# Altium schematic symbol library LEDBoard.SchLib: 9 symbols
Pins are listed as number, name and electrical type; pins without a type are passive.

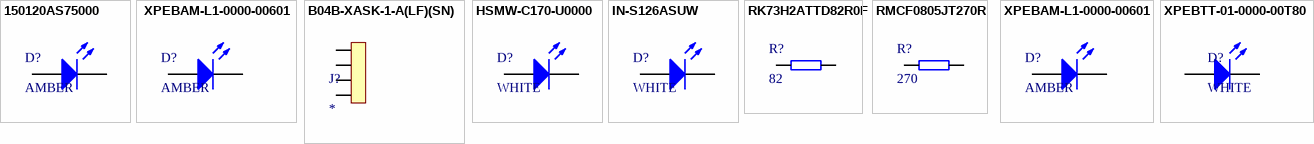
[diagram p0: symbols 150120AS75000 to XPEBTT-01-0000-00T80]

## 150120AS75000
designator D?, comment AMBER
WURTH ELEKTRONIK   150120AS75000   LED, 1206, AMBER, 140MCD, 605NM; Manufacturer 1: Wurth Electronics; Color: Orange; Forward Current: 30mA; Forward Voltage: 2V; Viewing Angle: 140°; Lens Style: Clear,Rectangular; Test Current: 20mA; Supplier 1: Digi-Key; Manufacturer Part Number 1: 150120AS75000; Stock 1: 2478; Pricing 1: 1=0.21000, 50=0.19800, 100=0.17100, 500=0.14800 (USD); RoHS: Yes; Mount: Surface Mount; Case/Package: 1206; Case Code (Metric): 3216; Case Code (Imperial): 1206; Min Operating Temperature: -40°C; Max Operating Temperature: 85°C; Luminous Intensity: 140mcd; Package Quantity: 3000; Packaging: Tape and Reel; Wavelength: 605nm; Dominant Wavelength: 605nm; Length: 3.2mm; Height: 0.68mm; Width: 1.6mm; REACH SVHC: Unknown; ComponentLink1URL: https://datasheet.ciiva.com/29561/150120as75000-29561877.pdf?src-supplier=Digi-Key; ComponentLink1Description: https://datasheet.ciiva.com/29561/150120as75000-29561877.pdf?src-supplier=Digi-Key; ComponentLink2URL: https://datasheet.ciiva.com/29279/759439-da-01-en-chipled-1206-w-kl-amb-150120as75000-29279037.pdf?src-supplier=Conrad; ComponentLink2Description: https://datasheet.ciiva.com/29279/759439-da-01-en-chipled-1206-w-kl-amb-150120as75000-29279037.pdf?src-supplier=Conrad; ComponentLink3URL: https://datasheet.ciiva.com/29561/150120as75000-29561878.pdf?src-supplier=Digi-Key; ComponentLink3Description: https://datasheet.ciiva.com/29561/150120as75000-29561878.pdf?src-supplier=Digi-Key; ComponentLink4URL: https://datasheet.ciiva.com/29561/150120as75000-29561879.pdf?src-supplier=Digi-Key; ComponentLink4Description: https://datasheet.ciiva.com/29561/150120as75000-29561879.pdf?src-supplier=Digi-Key; Supplier Part Number 1: 732-4988-1-ND
footprint 150120AS75000
pins: 1 K, 2 A

##  XPEBAM-L1-0000-00601
designator D?, comment AMBER
LED Lighting Color XLamp® XP-E2 Amber 590nm (585nm ~ 595nm) 1414 (3535 Metric); Manufacturer 1: Cree; Manufacturer Part Number 1: XPEBAM-L1-0000-00601; Color: Orange; Lens Color: Clear; Reverse Voltage: 5V; Test Current: 350mA; Max Current Rating: 1A; Thermal Resistance of Package: 7°C/W; Test Temperature: 25°C; Luminous Flux: 62lm; Lens Style: Dome; Number of Elements: 1; Viewing Angle: 130°; Forward Voltage: 2.2V; Power Rating: 3W; ComponentLink1Description: Digikey; ComponentLink1URL: https://www.digikey.ca/en/products/detail/cree-inc/XPEBAM-L1-0000-00601/4177240; Supplier 1: Digi-Key; Stock 1: 559; Pricing 1: 1=1.15000, 10=1.09400, 50=1.06280, 100=0.97870, 200=0.89005, 500=0.83362 (USD); RoHS: Yes; Mount: Surface Mount; Case/Package: SMD/SMT; Number of Pins: 2; Max Operating Temperature: 150°C; Reverse Voltage (DC): 5V; Dominant Wavelength: 595nm; Package Quantity: 1000; Packaging: Tape and Reel; Wavelength: 595nm; Illumination Color: Orange; Forward Current: 1A; Length: 3.45mm; Height: 2.26mm; Width: 3.45mm; Depth: 3.45mm; Radiation Hardening: No; Lead Free: Lead Free; ComponentLink2URL: https://datasheet.ciiva.com/26857/getdatasheetpartid-734978-26857704.pdf?src-supplier=Verical; ComponentLink2Description: https://datasheet.ciiva.com/26857/getdatasheetpartid-734978-26857704.pdf?src-supplier=Verical; ComponentLink3URL: https://datasheet.ciiva.com/46636/xlampxpe2-46636200.pdf?src-supplier=Digi-Key; ComponentLink3Description: https://datasheet.ciiva.com/46636/xlampxpe2-46636200.pdf?src-supplier=Digi-Key; ComponentLink4URL: https://datasheet.ciiva.com/24122/xlampxpe2-24122053.pdf?src-supplier=Mouser; ComponentLink4Description: https://datasheet.ciiva.com/24122/xlampxpe2-24122053.pdf?src-supplier=Mouser; Supplier Part Number 1: XPEBAM-L1-0000-00601CT-ND
footprint XPCAMB-L1-0000-00501
pins: 1 A, 2 K

## B04B-XASK-1-A(LF)(SN)
designator J?
XA Series 4 Position 2.5mm Pitch Top Entry with Boss ThroughHole Shrouded Header; Manufacturer 1: JST; Manufacturer Part Number 1: B04B-XASK-1-A(LF)(SN); Number of Positions: 4; Supplier 1: Arrow; Stock 1: 380; Pricing 1: 1=0.25960, 10=0.25030, 100=0.16200, 500=0.13850, 1000=0.10710, 5000=0.10160, 10000=0.10130 (USD); RoHS: Yes; Mount: Through Hole; Termination: Crimp; Pitch: 2.5mm; Lead Free: Lead Free; ComponentLink1URL: https://datasheet.ciiva.com/16500/jstb04b-xask-1-a-lf-sn-16500956.pdf?src-supplier=Future+Electronics; ComponentLink1Description: https://datasheet.ciiva.com/16500/jstb04b-xask-1-a-lf-sn-16500956.pdf?src-supplier=Future+Electronics; Supplier Part Number 1: B04B-XASK-1-A(LF)(SN)
footprint B04B-XASK-1-A
pins: 1, 2, 3, 4

## HSMW-C170-U0000
designator D?, comment WHITE
Led, White, 670MCD, 0805; Manufacturer 1: Broadcom Avago; Manufacturer Part Number 1: HSMW-C170-U0000; Lens Style: Flat; Forward Voltage: 3.4V; Test Current: 20mA; Viewing Angle: 170°; Lens Size: 1.25mm; Supplier 1: Digi-Key; Stock 1: 12232; Pricing 1: 1=1.05000, 10=0.81600, 100=0.52470, 500=0.44308, 1000=0.34980 (USD); RoHS: No; Mount: Surface Mount; Case/Package: 0805; Color: White; Case Code (Imperial): 0805; Case Code (Metric): 2012; Packaging: Cut Tape; Luminous Intensity: 670mcd; Length: 2mm; Height: 0.9mm; Width: 1.25mm; ComponentLink1URL: https://docs.broadcom.com/docs/HSMW-C170-U0000-DS100?src-supplier=Digi-Key; ComponentLink1Description: https://docs.broadcom.com/docs/HSMW-C170-U0000-DS100?src-supplier=Digi-Key; Supplier Part Number 1: 516-3993-1-ND
footprint HSMW-C170-U0000
pins: 1 K, 2 A

## IN-S126ASUW
designator D?, comment WHITE
Led White Clear 1206 SMD R/a; Manufacturer 1: Inolux; Manufacturer Part Number 1: IN-S126ASUW; Lens Style: Domed; Luminous Intensity: 720mcd; Forward Voltage: 3V; Test Current: 20mA; Viewing Angle: 120°; Lens Size: 1mm; Supplier 1: Digi-Key; Stock 1: 618; Pricing 1: 1=0.49000, 10=0.34600, 100=0.20180, 500=0.13840, 1000=0.11534 (USD); RoHS: No; Mount: Surface Mount; Case/Package: SMD/SMT; Color: White; Lens Color: Clear; Packaging: Tape and Reel; Lens Transparency: Clear; Length: 3.2mm; Height: 1mm; Width: 1.5mm; ComponentLink1URL: http://www.inolux-corp.com/datasheet/SMDLED/Mono%20Color%20Side%20View/IN-S126AS%20Series_V1.0.pdf?src-supplier=Digi-Key; ComponentLink1Description: http://www.inolux-corp.com/datasheet/SMDLED/Mono%20Color%20Side%20View/IN-S126AS%20Series_V1.0.pdf?src-supplier=Digi-Key; Supplier Part Number 1: 1830-1047-1-ND
footprint IN-S126ASUW
pins: 1 K, 2 A

## RK73H2ATTD82R0F
designator R?, comment 82
82 Ohms ±1% 0.25W, 1/4W Chip Resistor 0805 (2012 Metric) Automotive AEC-Q200, Moisture Resistant Thick Film; Manufacturer 1: KOA Speer; Manufacturer Part Number 1: RK73H2ATTD82R0F; Temperature Coefficient: 100ppm/°C; Resistance: 82R; Power Rating: 125mW; Voltage Rating: 150V; ComponentLink1Description: Digikey; ComponentLink1URL: https://www.digikey.com/product-detail/en/koa-speer-electronics-inc/RK73H2ATTD82R0F/2019-RK73H2ATTD82R0FCT-ND/10235651; ComponentLink2Description: Datasheet; ComponentLink2URL: http://www.koaspeer.com/pdfs/RK73H.pdf; Supplier 1: Digi-Key; Stock 1: 62113; Pricing 1: 1=0.10000, 10=0.03300, 100=0.01360, 1000=0.00612, 2500=0.00531 (USD); RoHS: Yes; Case/Package: 0805; Number of Pins: 2; Case Code (Imperial): 0805; Case Code (Metric): 2012; Min Operating Temperature: -55°C; Max Operating Temperature: 155°C; Termination: SMD/SMT; Military Standard: Not; Composition: Thick Film; Tolerance: 1%; Packaging: Tape and Reel; Package Quantity: 5000; Length: 2mm; Height: 0.5mm; Depth: 1.25mm; Width: 1.25mm; Lead Free: Lead Free; ComponentLink3URL: https://datasheet.ciiva.com/5553/rk73h-5553054.pdf?src-supplier=Mouser; ComponentLink3Description: https://datasheet.ciiva.com/5553/rk73h-5553054.pdf?src-supplier=Mouser; Supplier Part Number 1: 2019-RK73H2ATTD82R0FCT-ND
footprint 0805
pins: 1, 2

## RMCF0805JT270R
designator R?, comment 270
270 Ohms ±5% 0.125W, 1/8W Chip Resistor 0805 (2012 Metric) Automotive AEC-Q200 Thick Film; Manufacturer 1: Stackpole Electronics; Manufacturer Part Number 1: RMCF0805JT270R; Resistance: 270R; Power Rating: 125mW; Temperature Coefficient: 200ppm/°C; ComponentLink1Description: Digikey; ComponentLink1URL: https://www.digikey.com/product-detail/en/stackpole-electronics-inc/RMCF0805JT270R/RMCF0805JT270RCT-ND/1942546; ComponentLink2Description: Datasheet; ComponentLink2URL: https://www.seielect.com/catalog/sei-rmcf_rmcp.pdf; Supplier 1: Digi-Key; Stock 1: 134098; Pricing 1: 1=0.10000, 10=0.01900, 100=0.00780, 1000=0.00350, 2500=0.00304 (USD); RoHS: Yes; Mount: Surface Mount; Case/Package: 0805; Case Code (Metric): 2012; Contact Plating: Tin,Matte; Case Code (Imperial): 0805; Min Operating Temperature: -55°C; Max Operating Temperature: 155°C; Tolerance: 5%; Packaging: Tape and Reel; Features: Automotive AEC-Q200; Composition: Thick Film; Number of Terminations: 2; Military Standard: Not; Max Power Dissipation: 125mW; Length: 0.079inch; Height: 0.026inch; Width: 0.049inch; Depth: 1.25mm; Radiation Hardening: No; Lead Free: Lead Free; ComponentLink3URL: https://datasheet.ciiva.com/26919/getdatasheetpartid-464226-26919549.pdf?src-supplier=Verical; ComponentLink3Description: https://datasheet.ciiva.com/26919/getdatasheetpartid-464226-26919549.pdf?src-supplier=Verical; Supplier Part Number 1: RMCF0805JT270RCT-ND
footprint 0805
pins: 1, 2

## XPEBAM-L1-0000-00601
designator D?, comment AMBER
LED Uni-Color Amber 2-Pin SMD T/R; Manufacturer 1: Cree; Manufacturer Part Number 1: XPEBAM-L1-0000-00601; Color: Orange; Lens Color: Clear; Reverse Voltage: 5V; Test Current: 350mA; Max Current Rating: 1A; Thermal Resistance of Package: 7°C/W; Test Temperature: 25°C; Luminous Flux: 62lm; Lens Style: Dome; Dominant Wavelength: 595nm; Number of Elements: 1; Viewing Angle: 130°; Forward Voltage: 2.2V; Power Rating: 3W; Supplier 1: Digi-Key; Stock 1: 559; Pricing 1: 1=1.15000, 10=1.09400, 50=1.06280, 100=0.97870, 200=0.89005, 500=0.83362 (USD); RoHS: Yes; Mount: Surface Mount; Case/Package: SMD/SMT; Number of Pins: 2; Max Operating Temperature: 150°C; Reverse Voltage (DC): 5V; Package Quantity: 1000; Packaging: Tape and Reel; Wavelength: 595nm; Illumination Color: Orange; Forward Current: 1A; Length: 3.45mm; Height: 2.26mm; Width: 3.45mm; Depth: 3.45mm; Radiation Hardening: No; Lead Free: Lead Free; ComponentLink1URL: https://datasheet.ciiva.com/26857/getdatasheetpartid-734978-26857704.pdf?src-supplier=Verical; ComponentLink1Description: https://datasheet.ciiva.com/26857/getdatasheetpartid-734978-26857704.pdf?src-supplier=Verical; ComponentLink2URL: https://datasheet.ciiva.com/46636/xlampxpe2-46636200.pdf?src-supplier=Digi-Key; ComponentLink2Description: https://datasheet.ciiva.com/46636/xlampxpe2-46636200.pdf?src-supplier=Digi-Key; ComponentLink3URL: https://datasheet.ciiva.com/24122/xlampxpe2-24122053.pdf?src-supplier=Mouser; ComponentLink3Description: https://datasheet.ciiva.com/24122/xlampxpe2-24122053.pdf?src-supplier=Mouser; Supplier Part Number 1: XPEBAM-L1-0000-00601CT-ND
footprint XPCAMB-L1-0000-00501
pins: 1 A, 2 K

## XPEBTT-01-0000-00T80
designator D?, comment WHITE
LED Lighting Xlamp® XP-E Torch White, Cool 6000K ~ 10500K 3.5V 1.05A 125° 1414 (3535 Metric); Manufacturer 1: Cree; Manufacturer Part Number 1: XPEBTT-01-0000-00T80; Max Current Rating: 1.5A; Thermal Resistance of Package: 9°C/W; ComponentLink1Description: Datasheet; ComponentLink1URL: https://www.cree.com/led-components/media/documents/ds-XPE2-Torch.pdf; ComponentLink2Description: Digikey; ComponentLink2URL: https://www.digikey.com/product-detail/en/cree-inc/XPEBTT-01-0000-00T80/XPEBTT-01-0000-00T80CT-ND/5806157; Supplier 1: Digi-Key; Stock 1: 387; Pricing 1: 1=0.69000, 10=0.65200, 50=0.63400, 100=0.58380, 200=0.53090, 500=0.49724 (USD); RoHS: Yes; Mount: Surface Mount; Case/Package: SMD/SMT; Color: White; Packaging: Tape and Reel; Correlated Color Temperature (CCT): 6000K ~ 10500K; Test Current: 1.05A; Viewing Angle: 125°; Forward Voltage: 3.5V; Lead Free: Lead Free; ComponentLink3URL: http://www.mouser.com/ds/2/90/ds%20XPE2%20Torch-519361.pdf?src-supplier=Mouser; ComponentLink3Description: http://www.mouser.com/ds/2/90/ds%20XPE2%20Torch-519361.pdf?src-supplier=Mouser; ComponentLink4URL: http://www.cree.com/led-components/media/documents/ds-XPE2-Torch.pdf?src-supplier=Digi-Key; ComponentLink4Description: http://www.cree.com/led-components/media/documents/ds-XPE2-Torch.pdf?src-supplier=Digi-Key; Supplier Part Number 1: XPEBTT-01-0000-00T80CT-ND
footprint XPCAMB-L1-0000-00501
pins: 1 A, 2 K